# Altium schematic symbol library Reference_Voltage.SchLib: 343 symbols (part 1 of 4)
Pins are listed as number, name and electrical type; pins without a type are passive.

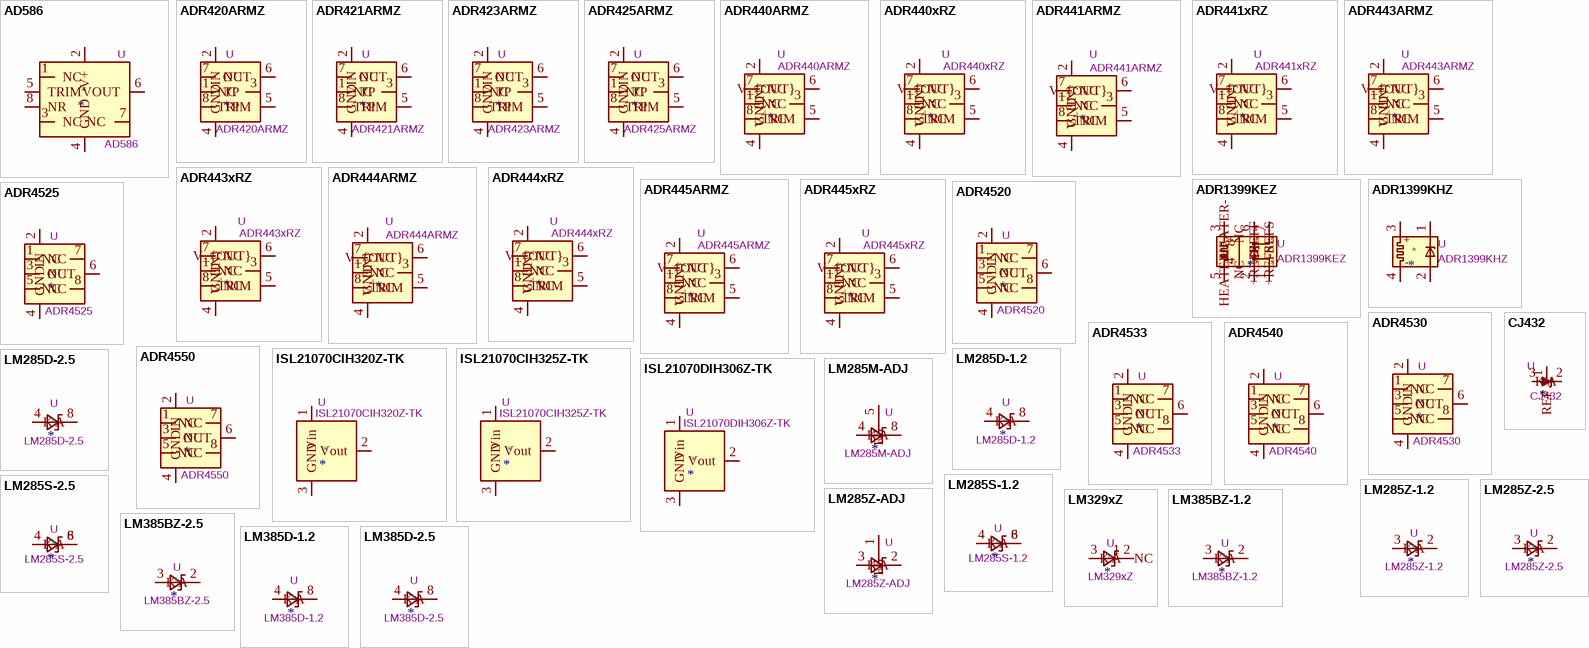
[diagram p0: symbols AD586 to LM385D-2.5]

## AD586
designator *  value AD586  Reference: U
High Precision, 5V Reference, DIP-8, SO-8; ki_keywords: voltage reference; ki_fp_filters: DIP*W7.62mm* SOIC*3.9x4.9mm*P1.27mm*; Datasheet: https://www.analog.com/media/en/technical-documentation/data-sheets/AD586.pdf; Description_: High Precision, 5V Reference, DIP-8, SO-8
pins: 1 NC, 2 V+, 3 NC, 4 GND, 5 TRIM, 6 VOUT, 7 NC, 8 NR

## ADR420ARMZ
designator *  value ADR420ARMZ  Reference: U
2.048V Voltage Reference, Ultraprecision, Low Noise, MSOP-8; ki_keywords: voltage reference Ultraprecision Low Noise; ki_fp_filters: MSOP*3x3mm*P0.65mm*; Footprint: Package_SO:MSOP-8_3x3mm_P0.65mm; Datasheet: https://www.analog.com/media/en/technical-documentation/data-sheets/adr420_421_423_425.pdf; Description_: 2.048V Voltage Reference, Ultraprecision, Low Noise, MSOP-8
pins: 1 TP, 2 VIN, 3 NC, 4 GND, 5 TRIM, 6 OUT, 7 NC, 8 TP

## ADR421ARMZ
designator *  value ADR421ARMZ  Reference: U
2.50V Voltage Reference, Ultraprecision, Low Noise, MSOP-8; ki_keywords: 2.5V voltage reference; ki_fp_filters: MSOP*3x3mm*P0.65mm*; Footprint: Package_SO:MSOP-8_3x3mm_P0.65mm; Datasheet: https://www.analog.com/media/en/technical-documentation/data-sheets/adr420_421_423_425.pdf; Description_: 2.50V Voltage Reference, Ultraprecision, Low Noise, MSOP-8
pins: 1 TP, 2 VIN, 3 NC, 4 GND, 5 TRIM, 6 OUT, 7 NC, 8 TP

## ADR423ARMZ
designator *  value ADR423ARMZ  Reference: U
3.00V Voltage Reference, Ultraprecision, Low Noise, MSOP-8; ki_keywords: 3V voltage reference; ki_fp_filters: MSOP*3x3mm*P0.65mm*; Footprint: Package_SO:MSOP-8_3x3mm_P0.65mm; Datasheet: https://www.analog.com/media/en/technical-documentation/data-sheets/adr420_421_423_425.pdf; Description_: 3.00V Voltage Reference, Ultraprecision, Low Noise, MSOP-8
pins: 1 TP, 2 VIN, 3 NC, 4 GND, 5 TRIM, 6 OUT, 7 NC, 8 TP

## ADR425ARMZ
designator *  value ADR425ARMZ  Reference: U
5.00V Voltage Reference, Ultraprecision, Low Noise, MSOP-8; ki_keywords: 5V voltage reference; ki_fp_filters: MSOP*3x3mm*P0.65mm*; Footprint: Package_SO:MSOP-8_3x3mm_P0.65mm; Datasheet: https://www.analog.com/media/en/technical-documentation/data-sheets/adr420_421_423_425.pdf; Description_: 5.00V Voltage Reference, Ultraprecision, Low Noise, MSOP-8
pins: 1 TP, 2 VIN, 3 NC, 4 GND, 5 TRIM, 6 OUT, 7 NC, 8 TP

## ADR440ARMZ
designator *  value ADR440ARMZ  Reference: U
2.048V Voltage Reference, Ultraprecision, Low Noise, MSOP-8; ki_keywords: voltage reference Ultraprecision Low Noise; ki_fp_filters: MSOP*3x3mm*P0.65mm*; Footprint: Package_SO:MSOP-8_3x3mm_P0.65mm; Datasheet: https://www.analog.com/media/en/technical-documentation/data-sheets/adr440_441_443_444_445.pdf; Description_: 2.048V Voltage Reference, Ultraprecision, Low Noise, MSOP-8
pins: 1 NC, 2 V_{IN}, 3 NC, 4 GND, 5 TRIM, 6 V_{OUT}, 7 NC, 8 NC

## ADR440xRZ
designator *  value ADR440xRZ  Reference: U
2.048V Voltage Reference, Ultraprecision, Low Noise, SOIC-8; ki_keywords: voltage reference Ultraprecision Low Noise; ki_fp_filters: SOIC*3.9x4.9mm*P1.27mm*; Footprint: Package_SO:SOIC-8_3.9x4.9mm_P1.27mm; Datasheet: https://www.analog.com/media/en/technical-documentation/data-sheets/adr440_441_443_444_445.pdf; Description_: 2.048V Voltage Reference, Ultraprecision, Low Noise, SOIC-8
pins: 1 NC, 2 V_{IN}, 3 NC, 4 GND, 5 TRIM, 6 V_{OUT}, 7 NC, 8 NC

## ADR441ARMZ
designator *  value ADR441ARMZ  Reference: U
2.5V Voltage Reference, Ultraprecision, Low Noise, MSOP-8; ki_keywords: voltage reference Ultraprecision Low Noise; ki_fp_filters: MSOP*3x3mm*P0.65mm*; Footprint: Package_SO:MSOP-8_3x3mm_P0.65mm; Datasheet: https://www.analog.com/media/en/technical-documentation/data-sheets/adr440_441_443_444_445.pdf; Description_: 2.5V Voltage Reference, Ultraprecision, Low Noise, MSOP-8
pins: 1 NC, 2 V_{IN}, 3 NC, 4 GND, 5 TRIM, 6 V_{OUT}, 7 NC, 8 NC

## ADR441xRZ
designator *  value ADR441xRZ  Reference: U
2.5V Voltage Reference, Ultraprecision, Low Noise, SOIC-8; ki_keywords: voltage reference Ultraprecision Low Noise; ki_fp_filters: SOIC*3.9x4.9mm*P1.27mm*; Footprint: Package_SO:SOIC-8_3.9x4.9mm_P1.27mm; Datasheet: https://www.analog.com/media/en/technical-documentation/data-sheets/adr440_441_443_444_445.pdf; Description_: 2.5V Voltage Reference, Ultraprecision, Low Noise, SOIC-8
pins: 1 NC, 2 V_{IN}, 3 NC, 4 GND, 5 TRIM, 6 V_{OUT}, 7 NC, 8 NC

## ADR443ARMZ
designator *  value ADR443ARMZ  Reference: U
3V Voltage Reference, Ultraprecision, Low Noise, MSOP-8; ki_keywords: voltage reference Ultraprecision Low Noise; ki_fp_filters: MSOP*3x3mm*P0.65mm*; Footprint: Package_SO:MSOP-8_3x3mm_P0.65mm; Datasheet: https://www.analog.com/media/en/technical-documentation/data-sheets/adr440_441_443_444_445.pdf; Description_: 3V Voltage Reference, Ultraprecision, Low Noise, MSOP-8
pins: 1 NC, 2 V_{IN}, 3 NC, 4 GND, 5 TRIM, 6 V_{OUT}, 7 NC, 8 NC

## ADR443xRZ
designator *  value ADR443xRZ  Reference: U
3V Voltage Reference, Ultraprecision, Low Noise, SOIC-8; ki_keywords: voltage reference Ultraprecision Low Noise; ki_fp_filters: SOIC*3.9x4.9mm*P1.27mm*; Footprint: Package_SO:SOIC-8_3.9x4.9mm_P1.27mm; Datasheet: https://www.analog.com/media/en/technical-documentation/data-sheets/adr440_441_443_444_445.pdf; Description_: 3V Voltage Reference, Ultraprecision, Low Noise, SOIC-8
pins: 1 NC, 2 V_{IN}, 3 NC, 4 GND, 5 TRIM, 6 V_{OUT}, 7 NC, 8 NC

## ADR444ARMZ
designator *  value ADR444ARMZ  Reference: U
4.096V Voltage Reference, Ultraprecision, Low Noise, MSOP-8; ki_keywords: voltage reference Ultraprecision Low Noise; ki_fp_filters: MSOP*3x3mm*P0.65mm*; Footprint: Package_SO:MSOP-8_3x3mm_P0.65mm; Datasheet: https://www.analog.com/media/en/technical-documentation/data-sheets/adr440_441_443_444_445.pdf; Description_: 4.096V Voltage Reference, Ultraprecision, Low Noise, MSOP-8
pins: 1 NC, 2 V_{IN}, 3 NC, 4 GND, 5 TRIM, 6 V_{OUT}, 7 NC, 8 NC

## ADR444xRZ
designator *  value ADR444xRZ  Reference: U
4.096V Voltage Reference, Ultraprecision, Low Noise, SOIC-8; ki_keywords: voltage reference Ultraprecision Low Noise; ki_fp_filters: SOIC*3.9x4.9mm*P1.27mm*; Footprint: Package_SO:SOIC-8_3.9x4.9mm_P1.27mm; Datasheet: https://www.analog.com/media/en/technical-documentation/data-sheets/adr440_441_443_444_445.pdf; Description_: 4.096V Voltage Reference, Ultraprecision, Low Noise, SOIC-8
pins: 1 NC, 2 V_{IN}, 3 NC, 4 GND, 5 TRIM, 6 V_{OUT}, 7 NC, 8 NC

## ADR445ARMZ
designator *  value ADR445ARMZ  Reference: U
5V Voltage Reference, Ultraprecision, Low Noise, MSOP-8; ki_keywords: voltage reference Ultraprecision Low Noise; ki_fp_filters: MSOP*3x3mm*P0.65mm*; Footprint: Package_SO:MSOP-8_3x3mm_P0.65mm; Datasheet: https://www.analog.com/media/en/technical-documentation/data-sheets/adr440_441_443_444_445.pdf; Description_: 5V Voltage Reference, Ultraprecision, Low Noise, MSOP-8
pins: 1 NC, 2 V_{IN}, 3 NC, 4 GND, 5 TRIM, 6 V_{OUT}, 7 NC, 8 NC

## ADR445xRZ
designator *  value ADR445xRZ  Reference: U
5V Voltage Reference, Ultraprecision, Low Noise, SOIC-8; ki_keywords: voltage reference Ultraprecision Low Noise; ki_fp_filters: SOIC*3.9x4.9mm*P1.27mm*; Footprint: Package_SO:SOIC-8_3.9x4.9mm_P1.27mm; Datasheet: https://www.analog.com/media/en/technical-documentation/data-sheets/adr440_441_443_444_445.pdf; Description_: 5V Voltage Reference, Ultraprecision, Low Noise, SOIC-8
pins: 1 NC, 2 V_{IN}, 3 NC, 4 GND, 5 TRIM, 6 V_{OUT}, 7 NC, 8 NC

## ADR1399KEZ
designator *  value ADR1399KEZ  Reference: U
Oven-Compensated, Buried Zener, 7.05 V Voltage Reference, LCC-8; ki_keywords: Zener diode device voltage reference; ki_fp_filters: Analog*LCC?8*5x5mm*P1.27mm*; Footprint: Package_LCC:Analog_LCC-8_5x5mm_P1.27mm; Datasheet: https://www.analog.com/media/en/technical-documentation/data-sheets/adr1399.pdf; Description_: Oven-Compensated, Buried Zener, 7.05 V Voltage Reference, LCC-8
pins: 1 -REFS, 2 -REFF, 3 HEATER+, 4 NC, 5 HEATER-, 6 +REFF, 7 +REFS, 8 NC
text: +; F; S; -

## ADR1399KHZ
designator *  value ADR1399KHZ  Reference: U
Oven-Compensated, Buried Zener, 7.05 V Voltage Reference, TO-46-4; ki_keywords: Zener diode device voltage reference; ki_fp_filters: Analog*TO?46*; Footprint: Package_TO_SOT_THT:Analog_TO-46-4_ThermalShield; Datasheet: https://www.analog.com/media/en/technical-documentation/data-sheets/adr1399.pdf; Description_: Oven-Compensated, Buried Zener, 7.05 V Voltage Reference, TO-46-4
pins: 1, 2, 3, 4
text: +; -

## ADR4520
designator *  value ADR4520  Reference: U
2.048V, Ultralow Noise, High Accuracy Voltage Reference, SOIC-8; ki_keywords: vref; ki_fp_filters: SOIC*3.9x4.9mm*P1.27mm*; Footprint: Package_SO:SOIC-8_3.9x4.9mm_P1.27mm; Datasheet: https://www.analog.com/media/en/technical-documentation/data-sheets/ADR4520_4525_4530_4533_4540_4550.pdf; Description_: 2.048V, Ultralow Noise, High Accuracy Voltage Reference, SOIC-8
pins: 1 NC, 2 IN, 3 NC, 4 GND, 5 NC, 6 OUT, 7 NC, 8 NC

## ADR4525
designator *  value ADR4525  Reference: U
2.5V, Ultralow Noise, High Accuracy Voltage Reference, SOIC-8; ki_keywords: vref; ki_fp_filters: SOIC*3.9x4.9mm*P1.27mm*; Footprint: Package_SO:SOIC-8_3.9x4.9mm_P1.27mm; Datasheet: https://www.analog.com/media/en/technical-documentation/data-sheets/ADR4520_4525_4530_4533_4540_4550.pdf; Description_: 2.5V, Ultralow Noise, High Accuracy Voltage Reference, SOIC-8
pins: 1 NC, 2 IN, 3 NC, 4 GND, 5 NC, 6 OUT, 7 NC, 8 NC

## ADR4530
designator *  value ADR4530  Reference: U
3.0V,  Ultralow Noise, High Accuracy Voltage Reference, SOIC-8; ki_keywords: vref; ki_fp_filters: SOIC*3.9x4.9mm*P1.27mm*; Footprint: Package_SO:SOIC-8_3.9x4.9mm_P1.27mm; Datasheet: https://www.analog.com/media/en/technical-documentation/data-sheets/ADR4520_4525_4530_4533_4540_4550.pdf; Description_: 3.0V,  Ultralow Noise, High Accuracy Voltage Reference, SOIC-8
pins: 1 NC, 2 IN, 3 NC, 4 GND, 5 NC, 6 OUT, 7 NC, 8 NC

## ADR4533
designator *  value ADR4533  Reference: U
3.3V,  Ultralow Noise, High Accuracy Voltage Reference, SOIC-8; ki_keywords: vref; ki_fp_filters: SOIC*3.9x4.9mm*P1.27mm*; Footprint: Package_SO:SOIC-8_3.9x4.9mm_P1.27mm; Datasheet: https://www.analog.com/media/en/technical-documentation/data-sheets/ADR4520_4525_4530_4533_4540_4550.pdf; Description_: 3.3V,  Ultralow Noise, High Accuracy Voltage Reference, SOIC-8
pins: 1 NC, 2 IN, 3 NC, 4 GND, 5 NC, 6 OUT, 7 NC, 8 NC

## ADR4540
designator *  value ADR4540  Reference: U
4.096V,  Ultralow Noise, High Accuracy Voltage Reference, SOIC-8; ki_keywords: vref; ki_fp_filters: SOIC*3.9x4.9mm*P1.27mm*; Footprint: Package_SO:SOIC-8_3.9x4.9mm_P1.27mm; Datasheet: https://www.analog.com/media/en/technical-documentation/data-sheets/ADR4520_4525_4530_4533_4540_4550.pdf; Description_: 4.096V,  Ultralow Noise, High Accuracy Voltage Reference, SOIC-8
pins: 1 NC, 2 IN, 3 NC, 4 GND, 5 NC, 6 OUT, 7 NC, 8 NC

## ADR4550
designator *  value ADR4550  Reference: U
5.0V,  Ultralow Noise, High Accuracy Voltage Reference, SOIC-8; ki_keywords: vref; ki_fp_filters: SOIC*3.9x4.9mm*P1.27mm*; Footprint: Package_SO:SOIC-8_3.9x4.9mm_P1.27mm; Datasheet: https://www.analog.com/media/en/technical-documentation/data-sheets/ADR4520_4525_4530_4533_4540_4550.pdf; Description_: 5.0V,  Ultralow Noise, High Accuracy Voltage Reference, SOIC-8
pins: 1 NC, 2 IN, 3 NC, 4 GND, 5 NC, 6 OUT, 7 NC, 8 NC

## CJ432
designator *  value CJ432  Reference: U
Shunt Regulator, SOT-23; ki_keywords: diode device shunt regulator; ki_fp_filters: SOT?23*; Footprint: Package_TO_SOT_SMD:SOT-23; Datasheet: http://www.cj-elec.com/txUpfile/20134181474991806.pdf; Description_: Shunt Regulator, SOT-23
pins: 1 REF, 2 K, 3 A

## ISL21070CIH320Z-TK
designator *  value ISL21070CIH320Z-TK  Reference: U
2.0V 25μA Micropower Voltage Reference, SOT-23; ki_keywords: Micropower Voltage Reference 2.0V; ki_fp_filters: SOT?23*; Footprint: Package_TO_SOT_SMD:SOT-23; Datasheet: http://www.intersil.com/content/dam/Intersil/documents/fn75/fn7599.pdf; Description_: 2.0V 25μA Micropower Voltage Reference, SOT-23
pins: 1 Vin, 2 Vout, 3 GND

## ISL21070CIH325Z-TK
designator *  value ISL21070CIH325Z-TK  Reference: U
2.5V 25μA Micropower Voltage Reference, SOT-23; ki_keywords: Micropower Voltage Reference 2.5V; ki_fp_filters: SOT?23*; Footprint: Package_TO_SOT_SMD:SOT-23; Datasheet: http://www.intersil.com/content/dam/Intersil/documents/fn75/fn7599.pdf; Description_: 2.5V 25μA Micropower Voltage Reference, SOT-23
pins: 1 Vin, 2 Vout, 3 GND

## ISL21070DIH306Z-TK
designator *  value ISL21070DIH306Z-TK  Reference: U
0.6V 25μA Micropower Voltage Reference, SOT-23; ki_keywords: Micropower Voltage Reference 0.6V; ki_fp_filters: SOT?23*; Footprint: Package_TO_SOT_SMD:SOT-23; Datasheet: http://www.intersil.com/content/dam/Intersil/documents/fn75/fn7599.pdf; Description_: 0.6V 25μA Micropower Voltage Reference, SOT-23
pins: 1 Vin, 2 Vout, 3 GND

## LM285D-1.2
designator *  value LM285D-1.2  Reference: U
1.235V Micropower Voltage Reference Diodes, SO-8; ki_keywords: diode device voltage reference; ki_fp_filters: SOIC?8*3.9x4.9m*P1.27mm*; Footprint: Package_SO:SOIC-8_3.9x4.9mm_P1.27mm; Datasheet: http://www.onsemi.com/pub_link/Collateral/LM285-D.PDF; Description_: 1.235V Micropower Voltage Reference Diodes, SO-8
pins: 4 A, 8 K

## LM285D-2.5
designator *  value LM285D-2.5  Reference: U
2.500V Micropower Voltage Reference Diodes, SO-8; ki_keywords: diode device voltage reference; ki_fp_filters: SOIC?8*3.9x4.9m*P1.27mm*; Footprint: Package_SO:SOIC-8_3.9x4.9mm_P1.27mm; Datasheet: http://www.onsemi.com/pub_link/Collateral/LM285-D.PDF; Description_: 2.500V Micropower Voltage Reference Diodes, SO-8
pins: 4 A, 8 K

## LM285M-ADJ
designator *  value LM285M-ADJ  Reference: U
Adjustable Micropower Voltage Reference Diodes, SO-8; ki_keywords: diode device voltage reference; ki_fp_filters: SOIC?8*3.9x4.9m*P1.27mm*; Footprint: Package_SO:SOIC-8_3.9x4.9mm_P1.27mm; Datasheet: http://www.ti.com/lit/ds/symlink/lm185-adj.pdf; Description_: Adjustable Micropower Voltage Reference Diodes, SO-8
pins: 4 A, 5 FB, 8 K

## LM285S-1.2
designator *  value LM285S-1.2  Reference: U
1.235V Micropower Voltage Reference Diodes, SO-8; ki_keywords: diode device voltage reference; ki_fp_filters: SOIC?8*3.9x4.9m*P1.27mm*; Footprint: Package_SO:SOIC-8_3.9x4.9mm_P1.27mm; Datasheet: https://www.analog.com/media/en/technical-documentation/data-sheets/185fc.pdf; Description_: 1.235V Micropower Voltage Reference Diodes, SO-8
pins: 4 A, 6 K, 8 K

## LM285S-2.5
designator *  value LM285S-2.5  Reference: U
2.500V Micropower Voltage Reference Diodes, SO-8; ki_keywords: diode device voltage reference; ki_fp_filters: SOIC?8*3.9x4.9m*P1.27mm*; Footprint: Package_SO:SOIC-8_3.9x4.9mm_P1.27mm; Datasheet: https://www.analog.com/media/en/technical-documentation/data-sheets/185fc.pdf; Description_: 2.500V Micropower Voltage Reference Diodes, SO-8
pins: 4 A, 6 K, 8 K

## LM285Z-1.2
designator *  value LM285Z-1.2  Reference: U
1.235V Micropower Voltage Reference Diodes, TO-92; ki_keywords: diode device voltage reference; ki_fp_filters: TO?92*Inline*; Footprint: Package_TO_SOT_THT:TO-92_Inline; Datasheet: http://www.onsemi.com/pub_link/Collateral/LM285-D.PDF; Description_: 1.235V Micropower Voltage Reference Diodes, TO-92
pins: 2 K, 3 A

## LM285Z-2.5
designator *  value LM285Z-2.5  Reference: U
2.5V Micropower Voltage Reference Diodes, TO-92; ki_keywords: diode device voltage reference; ki_fp_filters: TO?92*Inline*; Footprint: Package_TO_SOT_THT:TO-92_Inline; Datasheet: http://www.onsemi.com/pub_link/Collateral/LM285-D.PDF; Description_: 2.5V Micropower Voltage Reference Diodes, TO-92
pins: 2 K, 3 A

## LM285Z-ADJ
designator *  value LM285Z-ADJ  Reference: U
Adjustable Micropower Voltage Reference Diodes, TO-92; ki_keywords: diode device voltage reference; ki_fp_filters: TO?92*; Footprint: Package_TO_SOT_THT:TO-92_Inline; Datasheet: http://www.ti.com/lit/ds/symlink/lm185-adj.pdf; Description_: Adjustable Micropower Voltage Reference Diodes, TO-92
pins: 1 FB, 2 K, 3 A

## LM329xZ
designator *  value LM329xZ  Reference: U
6.9V Precision Voltage Reference, TO-92; ki_keywords: diode device voltage reference shunt; ki_fp_filters: TO?92*; Footprint: Package_TO_SOT_THT:TO-92_Inline; Datasheet: https://www.analog.com/media/en/technical-documentation/data-sheets/129329fd.pdf; Description_: 6.9V Precision Voltage Reference, TO-92
pins: 1 NC, 2 K, 3 A

## LM385BZ-1.2
designator *  value LM385BZ-1.2  Reference: U
1.235V Micropower Voltage Reference Diodes, TO-92; ki_keywords: diode device voltage reference; ki_fp_filters: TO?92*Inline*; Footprint: Package_TO_SOT_THT:TO-92_Inline; Datasheet: http://www.onsemi.com/pub_link/Collateral/LM285-D.PDF; Description_: 1.235V Micropower Voltage Reference Diodes, TO-92
pins: 2 K, 3 A

## LM385BZ-2.5
designator *  value LM385BZ-2.5  Reference: U
2.5V Micropower Voltage Reference Diodes, TO-92; ki_keywords: diode device voltage reference; ki_fp_filters: TO?92*Inline*; Footprint: Package_TO_SOT_THT:TO-92_Inline; Datasheet: http://www.onsemi.com/pub_link/Collateral/LM285-D.PDF; Description_: 2.5V Micropower Voltage Reference Diodes, TO-92
pins: 2 K, 3 A

## LM385D-1.2
designator *  value LM385D-1.2  Reference: U
1.235V Micropower Voltage Reference Diodes, SO-8; ki_keywords: diode device voltage reference; ki_fp_filters: SOIC?8*3.9x4.9m*P1.27mm*; Footprint: Package_SO:SOIC-8_3.9x4.9mm_P1.27mm; Datasheet: http://www.onsemi.com/pub_link/Collateral/LM285-D.PDF; Description_: 1.235V Micropower Voltage Reference Diodes, SO-8
pins: 4 A, 8 K

## LM385D-2.5
designator *  value LM385D-2.5  Reference: U
2.500V Micropower Voltage Reference Diodes, SO-8; ki_keywords: diode device voltage reference; ki_fp_filters: SOIC?8*3.9x4.9m*P1.27mm*; Footprint: Package_SO:SOIC-8_3.9x4.9mm_P1.27mm; Datasheet: http://www.onsemi.com/pub_link/Collateral/LM285-D.PDF; Description_: 2.500V Micropower Voltage Reference Diodes, SO-8
pins: 4 A, 8 K

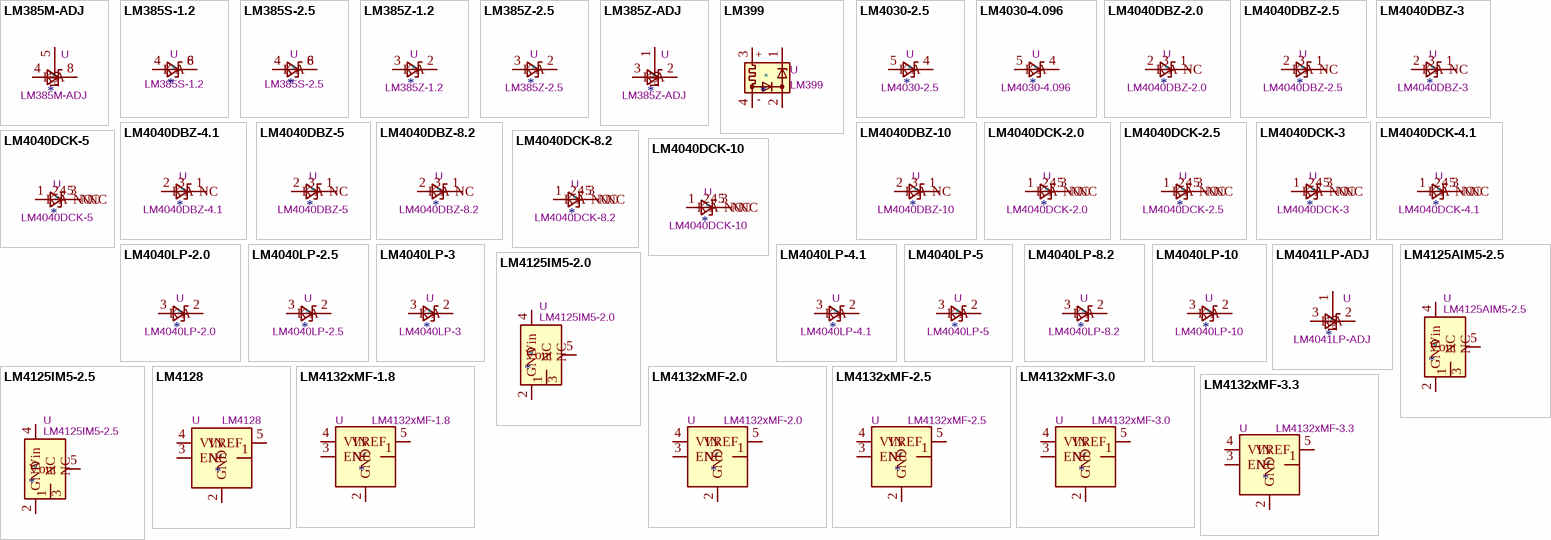
[diagram p1: symbols LM385M-ADJ to LM4132xMF-3.3]

## LM385M-ADJ
designator *  value LM385M-ADJ  Reference: U
Adjustable Micropower Voltage Reference Diodes, SO-8; ki_keywords: diode device voltage reference; ki_fp_filters: SOIC?8*3.9x4.9m*P1.27mm*; Footprint: Package_SO:SOIC-8_3.9x4.9mm_P1.27mm; Datasheet: http://www.ti.com/lit/ds/symlink/lm185-adj.pdf; Description_: Adjustable Micropower Voltage Reference Diodes, SO-8
pins: 4 A, 5 FB, 8 K

## LM385S-1.2
designator *  value LM385S-1.2  Reference: U
1.235V Micropower Voltage Reference Diodes, SO-8; ki_keywords: diode device voltage reference; ki_fp_filters: SOIC?8*3.9x4.9m*P1.27mm*; Footprint: Package_SO:SOIC-8_3.9x4.9mm_P1.27mm; Datasheet: https://www.analog.com/media/en/technical-documentation/data-sheets/185fc.pdf; Description_: 1.235V Micropower Voltage Reference Diodes, SO-8
pins: 4 A, 6 K, 8 K

## LM385S-2.5
designator *  value LM385S-2.5  Reference: U
2.500V Micropower Voltage Reference Diodes, SO-8; ki_keywords: diode device voltage reference; ki_fp_filters: SOIC?8*3.9x4.9m*P1.27mm*; Footprint: Package_SO:SOIC-8_3.9x4.9mm_P1.27mm; Datasheet: https://www.analog.com/media/en/technical-documentation/data-sheets/185fc.pdf; Description_: 2.500V Micropower Voltage Reference Diodes, SO-8
pins: 4 A, 6 K, 8 K

## LM385Z-1.2
designator *  value LM385Z-1.2  Reference: U
1.235V Micropower Voltage Reference Diodes, TO-92; ki_keywords: diode device voltage reference; ki_fp_filters: TO?92*Inline*; Footprint: Package_TO_SOT_THT:TO-92_Inline; Datasheet: http://www.onsemi.com/pub_link/Collateral/LM285-D.PDF; Description_: 1.235V Micropower Voltage Reference Diodes, TO-92
pins: 2 K, 3 A

## LM385Z-2.5
designator *  value LM385Z-2.5  Reference: U
2.5V Micropower Voltage Reference Diodes, TO-92; ki_keywords: diode device voltage reference; ki_fp_filters: TO?92*Inline*; Footprint: Package_TO_SOT_THT:TO-92_Inline; Datasheet: http://www.onsemi.com/pub_link/Collateral/LM285-D.PDF; Description_: 2.5V Micropower Voltage Reference Diodes, TO-92
pins: 2 K, 3 A

## LM385Z-ADJ
designator *  value LM385Z-ADJ  Reference: U
Adjustable Micropower Voltage Reference Diodes, TO-92; ki_keywords: diode device voltage reference; ki_fp_filters: TO?92*; Footprint: Package_TO_SOT_THT:TO-92_Inline; Datasheet: http://www.ti.com/lit/ds/symlink/lm185-adj.pdf; Description_: Adjustable Micropower Voltage Reference Diodes, TO-92
pins: 1 FB, 2 K, 3 A

## LM399
designator *  value LM399  Reference: U
Precision Reference, 6.95V, Buried Zener Diode with Thermal Shielding Can, TO-46-4; ki_keywords: Zener diode device voltage reference; ki_fp_filters: Analog*TO?46*; Footprint: Package_TO_SOT_THT:Analog_TO-46-4_ThermalShield; Datasheet: https://www.analog.com/media/en/technical-documentation/data-sheets/199399fc.pdf; Description_: Precision Reference, 6.95V, Buried Zener Diode with Thermal Shielding Can, TO-46-4
pins: 1, 2, 3, 4
text: +; -

## LM4030-2.5
designator *  value LM4030-2.5  Reference: U
2.500V Ultra-High Precision Shunt Voltage Reference, SOT-23-5; ki_keywords: diode device voltage reference shunt; ki_fp_filters: SOT?23?5*; Footprint: Package_TO_SOT_SMD:SOT-23-5; Datasheet: http://www.ti.com/lit/ds/symlink/lm4030.pdf; Description_: 2.500V Ultra-High Precision Shunt Voltage Reference, SOT-23-5
pins: 4 K, 5 A

## LM4030-4.096
designator *  value LM4030-4.096  Reference: U
4.096V Ultra-High Precision Shunt Voltage Reference, SOT-23-5; ki_keywords: diode device voltage reference shunt; ki_fp_filters: SOT?23?5*; Footprint: Package_TO_SOT_SMD:SOT-23-5; Datasheet: http://www.ti.com/lit/ds/symlink/lm4030.pdf; Description_: 4.096V Ultra-High Precision Shunt Voltage Reference, SOT-23-5
pins: 4 K, 5 A

## LM4040DBZ-2.0
designator *  value LM4040DBZ-2.0  Reference: U
2.048V Precision Micropower Shunt Voltage Reference, SOT-23; ki_keywords: diode device voltage reference shunt; ki_fp_filters: SOT?23*; Footprint: Package_TO_SOT_SMD:SOT-23; Datasheet: http://www.ti.com/lit/ds/symlink/lm4040-n.pdf; Description_: 2.048V Precision Micropower Shunt Voltage Reference, SOT-23
pins: 1 K, 2 A, 3 NC

## LM4040DBZ-2.5
designator *  value LM4040DBZ-2.5  Reference: U
2.500V Precision Micropower Shunt Voltage Reference, SOT-23; ki_keywords: diode device voltage reference shunt; ki_fp_filters: SOT?23*; Footprint: Package_TO_SOT_SMD:SOT-23; Datasheet: http://www.ti.com/lit/ds/symlink/lm4040-n.pdf; Description_: 2.500V Precision Micropower Shunt Voltage Reference, SOT-23
pins: 1 K, 2 A, 3 NC

## LM4040DBZ-3
designator *  value LM4040DBZ-3  Reference: U
3.000V Precision Micropower Shunt Voltage Reference, SOT-23; ki_keywords: diode device voltage reference shunt; ki_fp_filters: SOT?23*; Footprint: Package_TO_SOT_SMD:SOT-23; Datasheet: http://www.ti.com/lit/ds/symlink/lm4040-n.pdf; Description_: 3.000V Precision Micropower Shunt Voltage Reference, SOT-23
pins: 1 K, 2 A, 3 NC

## LM4040DBZ-4.1
designator *  value LM4040DBZ-4.1  Reference: U
4.096V Precision Micropower Shunt Voltage Reference, SOT-23; ki_keywords: diode device voltage reference shunt; ki_fp_filters: SOT?23*; Footprint: Package_TO_SOT_SMD:SOT-23; Datasheet: http://www.ti.com/lit/ds/symlink/lm4040-n.pdf; Description_: 4.096V Precision Micropower Shunt Voltage Reference, SOT-23
pins: 1 K, 2 A, 3 NC

## LM4040DBZ-5
designator *  value LM4040DBZ-5  Reference: U
5.000V Precision Micropower Shunt Voltage Reference, SOT-23; ki_keywords: diode device voltage reference shunt; ki_fp_filters: SOT?23*; Footprint: Package_TO_SOT_SMD:SOT-23; Datasheet: http://www.ti.com/lit/ds/symlink/lm4040-n.pdf; Description_: 5.000V Precision Micropower Shunt Voltage Reference, SOT-23
pins: 1 K, 2 A, 3 NC

## LM4040DBZ-8.2
designator *  value LM4040DBZ-8.2  Reference: U
8.192V Precision Micropower Shunt Voltage Reference, SOT-23; ki_keywords: diode device voltage reference shunt; ki_fp_filters: SOT?23*; Footprint: Package_TO_SOT_SMD:SOT-23; Datasheet: http://www.ti.com/lit/ds/symlink/lm4040-n.pdf; Description_: 8.192V Precision Micropower Shunt Voltage Reference, SOT-23
pins: 1 K, 2 A, 3 NC

## LM4040DBZ-10
designator *  value LM4040DBZ-10  Reference: U
10.00V Precision Micropower Shunt Voltage Reference, SOT-23; ki_keywords: diode device voltage reference shunt; ki_fp_filters: SOT?23*; Footprint: Package_TO_SOT_SMD:SOT-23; Datasheet: http://www.ti.com/lit/ds/symlink/lm4040-n.pdf; Description_: 10.00V Precision Micropower Shunt Voltage Reference, SOT-23
pins: 1 K, 2 A, 3 NC

## LM4040DCK-2.0
designator *  value LM4040DCK-2.0  Reference: U
2.048V Precision Micropower Shunt Voltage Reference, SC-70; ki_keywords: diode device voltage reference shunt; ki_fp_filters: SOT?353*; Footprint: Package_TO_SOT_SMD:SOT-353_SC-70-5; Datasheet: http://www.ti.com/lit/ds/symlink/lm4040-n.pdf; Description_: 2.048V Precision Micropower Shunt Voltage Reference, SC-70
pins: 1 A, 2 NC, 3 K, 4 NC, 5 NC

## LM4040DCK-2.5
designator *  value LM4040DCK-2.5  Reference: U
2.500V Precision Micropower Shunt Voltage Reference, SC-70; ki_keywords: diode device voltage reference shunt; ki_fp_filters: SOT?353*; Footprint: Package_TO_SOT_SMD:SOT-353_SC-70-5; Datasheet: http://www.ti.com/lit/ds/symlink/lm4040-n.pdf; Description_: 2.500V Precision Micropower Shunt Voltage Reference, SC-70
pins: 1 A, 2 NC, 3 K, 4 NC, 5 NC

## LM4040DCK-3
designator *  value LM4040DCK-3  Reference: U
3.000V Precision Micropower Shunt Voltage Reference, SC-70; ki_keywords: diode device voltage reference shunt; ki_fp_filters: SOT?353*; Footprint: Package_TO_SOT_SMD:SOT-353_SC-70-5; Datasheet: http://www.ti.com/lit/ds/symlink/lm4040-n.pdf; Description_: 3.000V Precision Micropower Shunt Voltage Reference, SC-70
pins: 1 A, 2 NC, 3 K, 4 NC, 5 NC

## LM4040DCK-4.1
designator *  value LM4040DCK-4.1  Reference: U
4.096V Precision Micropower Shunt Voltage Reference, SC-70; ki_keywords: diode device voltage reference shunt; ki_fp_filters: SOT?353*; Footprint: Package_TO_SOT_SMD:SOT-353_SC-70-5; Datasheet: http://www.ti.com/lit/ds/symlink/lm4040-n.pdf; Description_: 4.096V Precision Micropower Shunt Voltage Reference, SC-70
pins: 1 A, 2 NC, 3 K, 4 NC, 5 NC

## LM4040DCK-5
designator *  value LM4040DCK-5  Reference: U
5.000V Precision Micropower Shunt Voltage Reference, SC-70; ki_keywords: diode device voltage reference shunt; ki_fp_filters: SOT?353*; Footprint: Package_TO_SOT_SMD:SOT-353_SC-70-5; Datasheet: http://www.ti.com/lit/ds/symlink/lm4040-n.pdf; Description_: 5.000V Precision Micropower Shunt Voltage Reference, SC-70
pins: 1 A, 2 NC, 3 K, 4 NC, 5 NC

## LM4040DCK-8.2
designator *  value LM4040DCK-8.2  Reference: U
8.192V Precision Micropower Shunt Voltage Reference, SC-70; ki_keywords: diode device voltage reference shunt; ki_fp_filters: SOT?353*; Footprint: Package_TO_SOT_SMD:SOT-353_SC-70-5; Datasheet: http://www.ti.com/lit/ds/symlink/lm4040-n.pdf; Description_: 8.192V Precision Micropower Shunt Voltage Reference, SC-70
pins: 1 A, 2 NC, 3 K, 4 NC, 5 NC

## LM4040DCK-10
designator *  value LM4040DCK-10  Reference: U
10.0V Precision Micropower Shunt Voltage Reference, SC-70; ki_keywords: diode device voltage reference shunt; ki_fp_filters: SOT?353*; Footprint: Package_TO_SOT_SMD:SOT-353_SC-70-5; Datasheet: http://www.ti.com/lit/ds/symlink/lm4040-n.pdf; Description_: 10.0V Precision Micropower Shunt Voltage Reference, SC-70
pins: 1 A, 2 NC, 3 K, 4 NC, 5 NC

## LM4040LP-2.0
designator *  value LM4040LP-2.0  Reference: U
2.048V Precision Micropower Shunt Voltage Reference, TO-92; ki_keywords: diode device voltage reference shunt; ki_fp_filters: TO?92*Inline*; Footprint: Package_TO_SOT_THT:TO-92_Inline; Datasheet: http://www.ti.com/lit/ds/symlink/lm4040-n.pdf; Description_: 2.048V Precision Micropower Shunt Voltage Reference, TO-92
pins: 2 K, 3 A

## LM4040LP-2.5
designator *  value LM4040LP-2.5  Reference: U
2.500V Precision Micropower Shunt Voltage Reference, TO-92; ki_keywords: diode device voltage reference shunt; ki_fp_filters: TO?92*Inline*; Footprint: Package_TO_SOT_THT:TO-92_Inline; Datasheet: http://www.ti.com/lit/ds/symlink/lm4040-n.pdf; Description_: 2.500V Precision Micropower Shunt Voltage Reference, TO-92
pins: 2 K, 3 A

## LM4040LP-3
designator *  value LM4040LP-3  Reference: U
3.000V Precision Micropower Shunt Voltage Reference, TO-92; ki_keywords: diode device voltage reference shunt; ki_fp_filters: TO?92*Inline*; Footprint: Package_TO_SOT_THT:TO-92_Inline; Datasheet: http://www.ti.com/lit/ds/symlink/lm4040-n.pdf; Description_: 3.000V Precision Micropower Shunt Voltage Reference, TO-92
pins: 2 K, 3 A

## LM4040LP-4.1
designator *  value LM4040LP-4.1  Reference: U
4.096V Precision Micropower Shunt Voltage Reference, TO-92; ki_keywords: diode device voltage reference shunt; ki_fp_filters: TO?92*Inline*; Footprint: Package_TO_SOT_THT:TO-92_Inline; Datasheet: http://www.ti.com/lit/ds/symlink/lm4040-n.pdf; Description_: 4.096V Precision Micropower Shunt Voltage Reference, TO-92
pins: 2 K, 3 A

## LM4040LP-5
designator *  value LM4040LP-5  Reference: U
5.000V Precision Micropower Shunt Voltage Reference, TO-92; ki_keywords: diode device voltage reference shunt; ki_fp_filters: TO?92*Inline*; Footprint: Package_TO_SOT_THT:TO-92_Inline; Datasheet: http://www.ti.com/lit/ds/symlink/lm4040-n.pdf; Description_: 5.000V Precision Micropower Shunt Voltage Reference, TO-92
pins: 2 K, 3 A

## LM4040LP-8.2
designator *  value LM4040LP-8.2  Reference: U
8.192V Precision Micropower Shunt Voltage Reference, TO-92; ki_keywords: diode device voltage reference shunt; ki_fp_filters: TO?92*Inline*; Footprint: Package_TO_SOT_THT:TO-92_Inline; Datasheet: http://www.ti.com/lit/ds/symlink/lm4040-n.pdf; Description_: 8.192V Precision Micropower Shunt Voltage Reference, TO-92
pins: 2 K, 3 A

## LM4040LP-10
designator *  value LM4040LP-10  Reference: U
10.00V Precision Micropower Shunt Voltage Reference, TO-92; ki_keywords: diode device voltage reference shunt; ki_fp_filters: TO?92*Inline*; Footprint: Package_TO_SOT_THT:TO-92_Inline; Datasheet: http://www.ti.com/lit/ds/symlink/lm4040-n.pdf; Description_: 10.00V Precision Micropower Shunt Voltage Reference, TO-92
pins: 2 K, 3 A

## LM4041LP-ADJ
designator *  value LM4041LP-ADJ  Reference: U
Adjustable Precision Micropower Shunt Voltage Reference, TO-92; ki_keywords: diode device voltage reference shunt; ki_fp_filters: TO?92*; Footprint: Package_TO_SOT_THT:TO-92_Inline; Datasheet: http://www.ti.com/lit/ds/symlink/lm4041-n.pdf; Description_: Adjustable Precision Micropower Shunt Voltage Reference, TO-92
pins: 1 FB, 2 K, 3 A

## LM4125AIM5-2.5
designator *  value LM4125AIM5-2.5  Reference: U
2.5V ±0.2% Precision Micropower Low Dropout Voltage Reference, SOT-23-5; ki_keywords: Precision Micropower Low Dropout Voltage Reference 2.5V; ki_fp_filters: SOT?23*; Footprint: Package_TO_SOT_SMD:SOT-23-5; Datasheet: http://www.ti.com/lit/ds/symlink/lm4125.pdf; Description_: 2.5V ±0.2% Precision Micropower Low Dropout Voltage Reference, SOT-23-5
pins: 1 NC, 2 GND, 3 NC, 4 Vin, 5 Vout

## LM4125IM5-2.0
designator *  value LM4125IM5-2.0  Reference: U
2V ±0.5% Precision Micropower Low Dropout Voltage Reference, SOT-23-5; ki_keywords: Precision Micropower Low Dropout Voltage Reference 2V; ki_fp_filters: SOT?23*; Footprint: Package_TO_SOT_SMD:SOT-23-5; Datasheet: http://www.ti.com/lit/ds/symlink/lm4125.pdf; Description_: 2V ±0.5% Precision Micropower Low Dropout Voltage Reference, SOT-23-5
pins: 1 NC, 2 GND, 3 NC, 4 Vin, 5 Vout

## LM4125IM5-2.5
designator *  value LM4125IM5-2.5  Reference: U
2.5V ±0.5% Precision Micropower Low Dropout Voltage Reference, SOT-23-5; ki_keywords: Precision Micropower Low Dropout Voltage Reference 2.5V; ki_fp_filters: SOT?23*; Footprint: Package_TO_SOT_SMD:SOT-23-5; Datasheet: http://www.ti.com/lit/ds/symlink/lm4125.pdf; Description_: 2.5V ±0.5% Precision Micropower Low Dropout Voltage Reference, SOT-23-5
pins: 1 NC, 2 GND, 3 NC, 4 Vin, 5 Vout

## LM4128
designator *  value LM4128  Reference: U
2.5V ±0.2% Precision Micropower Low Dropout Voltage Reference, SOT-23-5; ki_keywords: Precision Micropower Low Dropout Voltage Reference 2.5V; ki_fp_filters: SOT?23*; Footprint: Package_TO_SOT_SMD:SOT-23-5; Datasheet: http://www.ti.com/lit/ds/symlink/lm4128.pdf; Description_: 2.5V ±0.2% Precision Micropower Low Dropout Voltage Reference, SOT-23-5
pins: 1 NC, 2 GND, 3 EN, 4 VIN, 5 VREF

## LM4132xMF-1.8
designator *  value LM4132xMF-1.8  Reference: U
Precision Low Dropout Voltage Reference, 1.8V, ±0.05% to ±0.5%, SOT-23-5; ki_keywords: Precision Low Dropout Voltage Reference 1.8V; ki_fp_filters: SOT?23*; Footprint: Package_TO_SOT_SMD:SOT-23-5; Datasheet: http://www.ti.com/lit/ds/symlink/lm4132.pdf; Description_: Precision Low Dropout Voltage Reference, 1.8V, ±0.05% to ±0.5%, SOT-23-5
pins: 1 NC, 2 GND, 3 EN, 4 VIN, 5 VREF

## LM4132xMF-2.0
designator *  value LM4132xMF-2.0  Reference: U
Precision Low Dropout Voltage Reference, 2.048V, ±0.05% to ±0.5%, SOT-23-5; ki_keywords: Precision Low Dropout Voltage Reference 2.048V; ki_fp_filters: SOT?23*; Footprint: Package_TO_SOT_SMD:SOT-23-5; Datasheet: http://www.ti.com/lit/ds/symlink/lm4132.pdf; Description_: Precision Low Dropout Voltage Reference, 2.048V, ±0.05% to ±0.5%, SOT-23-5
pins: 1 NC, 2 GND, 3 EN, 4 VIN, 5 VREF

## LM4132xMF-2.5
designator *  value LM4132xMF-2.5  Reference: U
Precision Low Dropout Voltage Reference, 2.5V, ±0.05% to ±0.5%, SOT-23-5; ki_keywords: Precision Low Dropout Voltage Reference 2.5V; ki_fp_filters: SOT?23*; Footprint: Package_TO_SOT_SMD:SOT-23-5; Datasheet: http://www.ti.com/lit/ds/symlink/lm4132.pdf; Description_: Precision Low Dropout Voltage Reference, 2.5V, ±0.05% to ±0.5%, SOT-23-5
pins: 1 NC, 2 GND, 3 EN, 4 VIN, 5 VREF

## LM4132xMF-3.0
designator *  value LM4132xMF-3.0  Reference: U
Precision Low Dropout Voltage Reference, 3.0V, ±0.05% to ±0.5%, SOT-23-5; ki_keywords: Precision Low Dropout Voltage Reference 3.0V; ki_fp_filters: SOT?23*; Footprint: Package_TO_SOT_SMD:SOT-23-5; Datasheet: http://www.ti.com/lit/ds/symlink/lm4132.pdf; Description_: Precision Low Dropout Voltage Reference, 3.0V, ±0.05% to ±0.5%, SOT-23-5
pins: 1 NC, 2 GND, 3 EN, 4 VIN, 5 VREF

## LM4132xMF-3.3
designator *  value LM4132xMF-3.3  Reference: U
Precision Low Dropout Voltage Reference, 3.3V, ±0.05% to ±0.5%, SOT-23-5; ki_keywords: Precision Low Dropout Voltage Reference 3.3V; ki_fp_filters: SOT?23*; Footprint: Package_TO_SOT_SMD:SOT-23-5; Datasheet: http://www.ti.com/lit/ds/symlink/lm4132.pdf; Description_: Precision Low Dropout Voltage Reference, 3.3V, ±0.05% to ±0.5%, SOT-23-5
pins: 1 NC, 2 GND, 3 EN, 4 VIN, 5 VREF

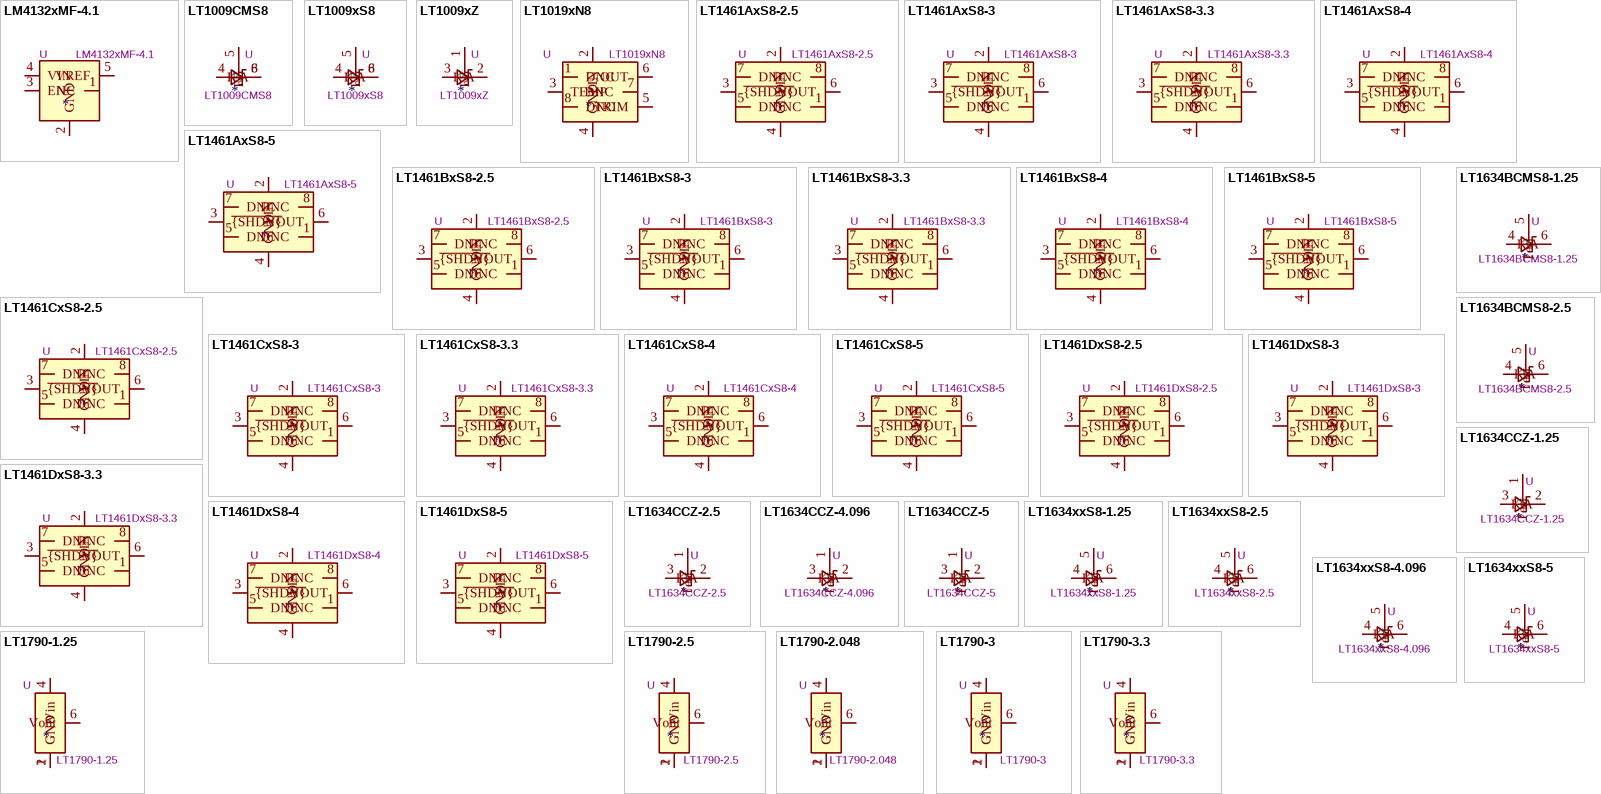
[diagram p2: symbols LM4132xMF-4.1 to LT1790-3.3]

## LM4132xMF-4.1
designator *  value LM4132xMF-4.1  Reference: U
Precision Low Dropout Voltage Reference, 4.096V, ±0.05% to ±0.5%, SOT-23-5; ki_keywords: Precision Low Dropout Voltage Reference 4.096V; ki_fp_filters: SOT?23*; Footprint: Package_TO_SOT_SMD:SOT-23-5; Datasheet: http://www.ti.com/lit/ds/symlink/lm4132.pdf; Description_: Precision Low Dropout Voltage Reference, 4.096V, ±0.05% to ±0.5%, SOT-23-5
pins: 1 NC, 2 GND, 3 EN, 4 VIN, 5 VREF

## LT1009CMS8
designator *  value LT1009CMS8  Reference: U
Adjustable Micropower Voltage Reference Diodes, TO-92; ki_keywords: diode device voltage reference; ki_fp_filters: *MSOP*; Footprint: Package_SO:MSOP-8_3x3mm_P0.65mm; Datasheet: https://www.analog.com/media/en/technical-documentation/data-sheets/lt1009.pdf; Description_: Adjustable Micropower Voltage Reference Diodes, TO-92
pins: 4 A, 5 FB, 6 K, 8 K

## LT1009xS8
designator *  value LT1009xS8  Reference: U
Adjustable Micropower Voltage Reference Diodes, TO-92; ki_keywords: diode device voltage reference; ki_fp_filters: *SOIC?8*; Footprint: Package_SO:SOIC-8_3.9x4.9mm_P1.27mm; Datasheet: https://www.analog.com/media/en/technical-documentation/data-sheets/lt1009.pdf; Description_: Adjustable Micropower Voltage Reference Diodes, TO-92
pins: 4 A, 5 FB, 6 K, 8 K

## LT1009xZ
designator *  value LT1009xZ  Reference: U
Adjustable Micropower Voltage Reference Diodes, TO-92; ki_keywords: diode device voltage reference LT1009CZ LT1009IZ; ki_fp_filters: TO?92*; Footprint: Package_TO_SOT_THT:TO-92L_Inline; Datasheet: https://www.analog.com/media/en/technical-documentation/data-sheets/lt1009.pdf; Description_: Adjustable Micropower Voltage Reference Diodes, TO-92
pins: 1 FB, 2 K, 3 A

## LT1019xN8
designator *  value LT1019xN8  Reference: U
Precision Reference, Ultra Low Drift, DIP-8; ki_keywords: voltage reference vref; ki_fp_filters: DIP*W7.62mm*; Footprint: Package_DIP:DIP-8_W7.62mm; Datasheet: https://www.analog.com/media/en/technical-documentation/data-sheets/1019fd.pdf; Description_: Precision Reference, Ultra Low Drift, DIP-8
pins: 1 DNC, 2 IN, 3 TEMP, 4 GND, 5 TRIM, 6 OUT, 7 DNC, 8 DNC

## LT1461AxS8-2.5
designator *  value LT1461AxS8-2.5  Reference: U
Voltage Reference, ±0.04%, 2.5V, 100mA, 3V-20V Vin, SOIC-8; ki_keywords: voltage reference precision; ki_fp_filters: SOIC*3.9x4.9mm*P1.27mm*; Footprint: Package_SO:SOIC-8_3.9x4.9mm_P1.27mm; Datasheet: https://www.analog.com/media/en/technical-documentation/data-sheets/LT1461.pdf; Description_: Voltage Reference, ±0.04%, 2.5V, 100mA, 3V-20V Vin, SOIC-8
pins: 1 DNC, 2 VIN, 3 ~{{SHDN}}, 4 GND, 5 DNC, 6 VOUT, 7 DNC, 8 DNC

## LT1461AxS8-3
designator *  value LT1461AxS8-3  Reference: U
Voltage Reference, ±0.04%, 3V, 100mA, 3.5V-20V Vin, SOIC-8; ki_keywords: voltage reference precision; ki_fp_filters: SOIC*3.9x4.9mm*P1.27mm*; Footprint: Package_SO:SOIC-8_3.9x4.9mm_P1.27mm; Datasheet: https://www.analog.com/media/en/technical-documentation/data-sheets/LT1461.pdf; Description_: Voltage Reference, ±0.04%, 3V, 100mA, 3.5V-20V Vin, SOIC-8
pins: 1 DNC, 2 VIN, 3 ~{{SHDN}}, 4 GND, 5 DNC, 6 VOUT, 7 DNC, 8 DNC

## LT1461AxS8-3.3
designator *  value LT1461AxS8-3.3  Reference: U
Voltage Reference, ±0.04%, 3.3V, 100mA, 3.8V-20V Vin, SOIC-8; ki_keywords: voltage reference precision; ki_fp_filters: SOIC*3.9x4.9mm*P1.27mm*; Footprint: Package_SO:SOIC-8_3.9x4.9mm_P1.27mm; Datasheet: https://www.analog.com/media/en/technical-documentation/data-sheets/LT1461.pdf; Description_: Voltage Reference, ±0.04%, 3.3V, 100mA, 3.8V-20V Vin, SOIC-8
pins: 1 DNC, 2 VIN, 3 ~{{SHDN}}, 4 GND, 5 DNC, 6 VOUT, 7 DNC, 8 DNC

## LT1461AxS8-4
designator *  value LT1461AxS8-4  Reference: U
Voltage Reference, ±0.04%, 4.096V, 100mA, 4.596V-20V Vin, SOIC-8; ki_keywords: voltage reference precision; ki_fp_filters: SOIC*3.9x4.9mm*P1.27mm*; Footprint: Package_SO:SOIC-8_3.9x4.9mm_P1.27mm; Datasheet: https://www.analog.com/media/en/technical-documentation/data-sheets/LT1461.pdf; Description_: Voltage Reference, ±0.04%, 4.096V, 100mA, 4.596V-20V Vin, SOIC-8
pins: 1 DNC, 2 VIN, 3 ~{{SHDN}}, 4 GND, 5 DNC, 6 VOUT, 7 DNC, 8 DNC

## LT1461AxS8-5
designator *  value LT1461AxS8-5  Reference: U
Voltage Reference, ±0.04%, 5V, 100mA, 5.5V-20V Vin, SOIC-8; ki_keywords: voltage reference precision; ki_fp_filters: SOIC*3.9x4.9mm*P1.27mm*; Footprint: Package_SO:SOIC-8_3.9x4.9mm_P1.27mm; Datasheet: https://www.analog.com/media/en/technical-documentation/data-sheets/LT1461.pdf; Description_: Voltage Reference, ±0.04%, 5V, 100mA, 5.5V-20V Vin, SOIC-8
pins: 1 DNC, 2 VIN, 3 ~{{SHDN}}, 4 GND, 5 DNC, 6 VOUT, 7 DNC, 8 DNC

## LT1461BxS8-2.5
designator *  value LT1461BxS8-2.5  Reference: U
Voltage Reference, ±0.06%, 2.5V, 100mA, 3V-20V Vin, SOIC-8; ki_keywords: voltage reference precision; ki_fp_filters: SOIC*3.9x4.9mm*P1.27mm*; Footprint: Package_SO:SOIC-8_3.9x4.9mm_P1.27mm; Datasheet: https://www.analog.com/media/en/technical-documentation/data-sheets/LT1461.pdf; Description_: Voltage Reference, ±0.06%, 2.5V, 100mA, 3V-20V Vin, SOIC-8
pins: 1 DNC, 2 VIN, 3 ~{{SHDN}}, 4 GND, 5 DNC, 6 VOUT, 7 DNC, 8 DNC

## LT1461BxS8-3
designator *  value LT1461BxS8-3  Reference: U
Voltage Reference, ±0.06%, 3V, 100mA, 3.5V-20V Vin, SOIC-8; ki_keywords: voltage reference precision; ki_fp_filters: SOIC*3.9x4.9mm*P1.27mm*; Footprint: Package_SO:SOIC-8_3.9x4.9mm_P1.27mm; Datasheet: https://www.analog.com/media/en/technical-documentation/data-sheets/LT1461.pdf; Description_: Voltage Reference, ±0.06%, 3V, 100mA, 3.5V-20V Vin, SOIC-8
pins: 1 DNC, 2 VIN, 3 ~{{SHDN}}, 4 GND, 5 DNC, 6 VOUT, 7 DNC, 8 DNC

## LT1461BxS8-3.3
designator *  value LT1461BxS8-3.3  Reference: U
Voltage Reference, ±0.06%, 3.3V, 100mA, 3.8V-20V Vin, SOIC-8; ki_keywords: voltage reference precision; ki_fp_filters: SOIC*3.9x4.9mm*P1.27mm*; Footprint: Package_SO:SOIC-8_3.9x4.9mm_P1.27mm; Datasheet: https://www.analog.com/media/en/technical-documentation/data-sheets/LT1461.pdf; Description_: Voltage Reference, ±0.06%, 3.3V, 100mA, 3.8V-20V Vin, SOIC-8
pins: 1 DNC, 2 VIN, 3 ~{{SHDN}}, 4 GND, 5 DNC, 6 VOUT, 7 DNC, 8 DNC

## LT1461BxS8-4
designator *  value LT1461BxS8-4  Reference: U
Voltage Reference, ±0.06%, 4.096V, 100mA, 4.596V-20V Vin, SOIC-8; ki_keywords: voltage reference precision; ki_fp_filters: SOIC*3.9x4.9mm*P1.27mm*; Footprint: Package_SO:SOIC-8_3.9x4.9mm_P1.27mm; Datasheet: https://www.analog.com/media/en/technical-documentation/data-sheets/LT1461.pdf; Description_: Voltage Reference, ±0.06%, 4.096V, 100mA, 4.596V-20V Vin, SOIC-8
pins: 1 DNC, 2 VIN, 3 ~{{SHDN}}, 4 GND, 5 DNC, 6 VOUT, 7 DNC, 8 DNC

## LT1461BxS8-5
designator *  value LT1461BxS8-5  Reference: U
Voltage Reference, ±0.06%, 5V, 100mA, 5.5V-20V Vin, SOIC-8; ki_keywords: voltage reference precision; ki_fp_filters: SOIC*3.9x4.9mm*P1.27mm*; Footprint: Package_SO:SOIC-8_3.9x4.9mm_P1.27mm; Datasheet: https://www.analog.com/media/en/technical-documentation/data-sheets/LT1461.pdf; Description_: Voltage Reference, ±0.06%, 5V, 100mA, 5.5V-20V Vin, SOIC-8
pins: 1 DNC, 2 VIN, 3 ~{{SHDN}}, 4 GND, 5 DNC, 6 VOUT, 7 DNC, 8 DNC

## LT1461CxS8-2.5
designator *  value LT1461CxS8-2.5  Reference: U
Voltage Reference, ±0.08%, 2.5V, 100mA, 3V-20V Vin, SOIC-8; ki_keywords: voltage reference precision; ki_fp_filters: SOIC*3.9x4.9mm*P1.27mm*; Footprint: Package_SO:SOIC-8_3.9x4.9mm_P1.27mm; Datasheet: https://www.analog.com/media/en/technical-documentation/data-sheets/LT1461.pdf; Description_: Voltage Reference, ±0.08%, 2.5V, 100mA, 3V-20V Vin, SOIC-8
pins: 1 DNC, 2 VIN, 3 ~{{SHDN}}, 4 GND, 5 DNC, 6 VOUT, 7 DNC, 8 DNC

## LT1461CxS8-3
designator *  value LT1461CxS8-3  Reference: U
Voltage Reference, ±0.08%, 3V, 100mA, 3.5V-20V Vin, SOIC-8; ki_keywords: voltage reference precision; ki_fp_filters: SOIC*3.9x4.9mm*P1.27mm*; Footprint: Package_SO:SOIC-8_3.9x4.9mm_P1.27mm; Datasheet: https://www.analog.com/media/en/technical-documentation/data-sheets/LT1461.pdf; Description_: Voltage Reference, ±0.08%, 3V, 100mA, 3.5V-20V Vin, SOIC-8
pins: 1 DNC, 2 VIN, 3 ~{{SHDN}}, 4 GND, 5 DNC, 6 VOUT, 7 DNC, 8 DNC

## LT1461CxS8-3.3
designator *  value LT1461CxS8-3.3  Reference: U
Voltage Reference, ±0.08%, 3.3V, 100mA, 3.8V-20V Vin, SOIC-8; ki_keywords: voltage reference precision; ki_fp_filters: SOIC*3.9x4.9mm*P1.27mm*; Footprint: Package_SO:SOIC-8_3.9x4.9mm_P1.27mm; Datasheet: https://www.analog.com/media/en/technical-documentation/data-sheets/LT1461.pdf; Description_: Voltage Reference, ±0.08%, 3.3V, 100mA, 3.8V-20V Vin, SOIC-8
pins: 1 DNC, 2 VIN, 3 ~{{SHDN}}, 4 GND, 5 DNC, 6 VOUT, 7 DNC, 8 DNC

## LT1461CxS8-4
designator *  value LT1461CxS8-4  Reference: U
Voltage Reference, ±0.08%, 4.096V, 100mA, 4.596V-20V Vin, SOIC-8; ki_keywords: voltage reference precision; ki_fp_filters: SOIC*3.9x4.9mm*P1.27mm*; Footprint: Package_SO:SOIC-8_3.9x4.9mm_P1.27mm; Datasheet: https://www.analog.com/media/en/technical-documentation/data-sheets/LT1461.pdf; Description_: Voltage Reference, ±0.08%, 4.096V, 100mA, 4.596V-20V Vin, SOIC-8
pins: 1 DNC, 2 VIN, 3 ~{{SHDN}}, 4 GND, 5 DNC, 6 VOUT, 7 DNC, 8 DNC

## LT1461CxS8-5
designator *  value LT1461CxS8-5  Reference: U
Voltage Reference, ±0.08%, 5V, 100mA, 5.5V-20V Vin, SOIC-8; ki_keywords: voltage reference precision; ki_fp_filters: SOIC*3.9x4.9mm*P1.27mm*; Footprint: Package_SO:SOIC-8_3.9x4.9mm_P1.27mm; Datasheet: https://www.analog.com/media/en/technical-documentation/data-sheets/LT1461.pdf; Description_: Voltage Reference, ±0.08%, 5V, 100mA, 5.5V-20V Vin, SOIC-8
pins: 1 DNC, 2 VIN, 3 ~{{SHDN}}, 4 GND, 5 DNC, 6 VOUT, 7 DNC, 8 DNC

## LT1461DxS8-2.5
designator *  value LT1461DxS8-2.5  Reference: U
Voltage Reference, ±0.15%, 2.5V, 100mA, 3V-20V Vin, SOIC-8; ki_keywords: voltage reference precision; ki_fp_filters: SOIC*3.9x4.9mm*P1.27mm*; Footprint: Package_SO:SOIC-8_3.9x4.9mm_P1.27mm; Datasheet: https://www.analog.com/media/en/technical-documentation/data-sheets/LT1461.pdf; Description_: Voltage Reference, ±0.15%, 2.5V, 100mA, 3V-20V Vin, SOIC-8
pins: 1 DNC, 2 VIN, 3 ~{{SHDN}}, 4 GND, 5 DNC, 6 VOUT, 7 DNC, 8 DNC

## LT1461DxS8-3
designator *  value LT1461DxS8-3  Reference: U
Voltage Reference, ±0.15%, 3V, 100mA, 3.5V-20V Vin, SOIC-8; ki_keywords: voltage reference precision; ki_fp_filters: SOIC*3.9x4.9mm*P1.27mm*; Footprint: Package_SO:SOIC-8_3.9x4.9mm_P1.27mm; Datasheet: https://www.analog.com/media/en/technical-documentation/data-sheets/LT1461.pdf; Description_: Voltage Reference, ±0.15%, 3V, 100mA, 3.5V-20V Vin, SOIC-8
pins: 1 DNC, 2 VIN, 3 ~{{SHDN}}, 4 GND, 5 DNC, 6 VOUT, 7 DNC, 8 DNC

## LT1461DxS8-3.3
designator *  value LT1461DxS8-3.3  Reference: U
Voltage Reference, ±0.15%, 3.3V, 100mA, 3.8V-20V Vin, SOIC-8; ki_keywords: voltage reference precision; ki_fp_filters: SOIC*3.9x4.9mm*P1.27mm*; Footprint: Package_SO:SOIC-8_3.9x4.9mm_P1.27mm; Datasheet: https://www.analog.com/media/en/technical-documentation/data-sheets/LT1461.pdf; Description_: Voltage Reference, ±0.15%, 3.3V, 100mA, 3.8V-20V Vin, SOIC-8
pins: 1 DNC, 2 VIN, 3 ~{{SHDN}}, 4 GND, 5 DNC, 6 VOUT, 7 DNC, 8 DNC

## LT1461DxS8-4
designator *  value LT1461DxS8-4  Reference: U
Voltage Reference, ±0.15%, 4.096V, 100mA, 4.596V-20V Vin, SOIC-8; ki_keywords: voltage reference precision; ki_fp_filters: SOIC*3.9x4.9mm*P1.27mm*; Footprint: Package_SO:SOIC-8_3.9x4.9mm_P1.27mm; Datasheet: https://www.analog.com/media/en/technical-documentation/data-sheets/LT1461.pdf; Description_: Voltage Reference, ±0.15%, 4.096V, 100mA, 4.596V-20V Vin, SOIC-8
pins: 1 DNC, 2 VIN, 3 ~{{SHDN}}, 4 GND, 5 DNC, 6 VOUT, 7 DNC, 8 DNC

## LT1461DxS8-5
designator *  value LT1461DxS8-5  Reference: U
Voltage Reference, ±0.15%, 5V, 100mA, 5.5V-20V Vin, SOIC-8; ki_keywords: voltage reference precision; ki_fp_filters: SOIC*3.9x4.9mm*P1.27mm*; Footprint: Package_SO:SOIC-8_3.9x4.9mm_P1.27mm; Datasheet: https://www.analog.com/media/en/technical-documentation/data-sheets/LT1461.pdf; Description_: Voltage Reference, ±0.15%, 5V, 100mA, 5.5V-20V Vin, SOIC-8
pins: 1 DNC, 2 VIN, 3 ~{{SHDN}}, 4 GND, 5 DNC, 6 VOUT, 7 DNC, 8 DNC

## LT1634BCMS8-1.25
designator *  value LT1634BCMS8-1.25  Reference: U
1.25V Micropower Precision Shunt Voltage Reference, MSOP-8; ki_keywords: voltage reference Micropower; ki_fp_filters: MSOP?8*3x3mm*P0.65mm*; Footprint: Package_SO:MSOP-8_3x3mm_P0.65mm; Datasheet: https://www.analog.com/media/en/technical-documentation/data-sheets/1634ff.pdf; Description_: 1.25V Micropower Precision Shunt Voltage Reference, MSOP-8
pins: 4 A, 5 Test, 6 K

## LT1634BCMS8-2.5
designator *  value LT1634BCMS8-2.5  Reference: U
2.5V Micropower Precision Shunt Voltage Reference, MSOP-8; ki_keywords: voltage reference Micropower; ki_fp_filters: MSOP?8*3x3mm*P0.65mm*; Footprint: Package_SO:MSOP-8_3x3mm_P0.65mm; Datasheet: https://www.analog.com/media/en/technical-documentation/data-sheets/1634ff.pdf; Description_: 2.5V Micropower Precision Shunt Voltage Reference, MSOP-8
pins: 4 A, 5 Test, 6 K

## LT1634CCZ-1.25
designator *  value LT1634CCZ-1.25  Reference: U
1.25V Micropower Precision Shunt Voltage Reference, TO-92; ki_keywords: voltage reference Micropower; ki_fp_filters: TO?92*; Footprint: Package_TO_SOT_THT:TO-92_Inline; Datasheet: https://www.analog.com/media/en/technical-documentation/data-sheets/1634ff.pdf; Description_: 1.25V Micropower Precision Shunt Voltage Reference, TO-92
pins: 1 Test, 2 K, 3 A

## LT1634CCZ-2.5
designator *  value LT1634CCZ-2.5  Reference: U
2.5V Micropower Precision Shunt Voltage Reference, TO-92; ki_keywords: voltage reference Micropower; ki_fp_filters: TO?92*; Footprint: Package_TO_SOT_THT:TO-92_Inline; Datasheet: https://www.analog.com/media/en/technical-documentation/data-sheets/1634ff.pdf; Description_: 2.5V Micropower Precision Shunt Voltage Reference, TO-92
pins: 1 Test, 2 K, 3 A

## LT1634CCZ-4.096
designator *  value LT1634CCZ-4.096  Reference: U
4.096V Micropower Precision Shunt Voltage Reference, TO-92; ki_keywords: voltage reference Micropower; ki_fp_filters: TO?92*; Footprint: Package_TO_SOT_THT:TO-92_Inline; Datasheet: https://www.analog.com/media/en/technical-documentation/data-sheets/1634ff.pdf; Description_: 4.096V Micropower Precision Shunt Voltage Reference, TO-92
pins: 1 Test, 2 K, 3 A

## LT1634CCZ-5
designator *  value LT1634CCZ-5  Reference: U
5V Micropower Precision Shunt Voltage Reference, TO-92; ki_keywords: voltage reference Micropower; ki_fp_filters: TO?92*; Footprint: Package_TO_SOT_THT:TO-92_Inline; Datasheet: https://www.analog.com/media/en/technical-documentation/data-sheets/1634ff.pdf; Description_: 5V Micropower Precision Shunt Voltage Reference, TO-92
pins: 1 Test, 2 K, 3 A

## LT1634xxS8-1.25
designator *  value LT1634xxS8-1.25  Reference: U
1.25V Micropower Precision Shunt Voltage Reference, SO-8; ki_keywords: voltage reference Micropower; ki_fp_filters: SO?8*3.9x4.9mm*P1.27mm*; Footprint: Package_SO:SO-8_3.9x4.9mm_P1.27mm; Datasheet: https://www.analog.com/media/en/technical-documentation/data-sheets/1634ff.pdf; Description_: 1.25V Micropower Precision Shunt Voltage Reference, SO-8
pins: 4 A, 5 Test, 6 K

## LT1634xxS8-2.5
designator *  value LT1634xxS8-2.5  Reference: U
2.5V Micropower Precision Shunt Voltage Reference, SO-8; ki_keywords: voltage reference Micropower; ki_fp_filters: SO?8*3.9x4.9mm*P1.27mm*; Footprint: Package_SO:SO-8_3.9x4.9mm_P1.27mm; Datasheet: https://www.analog.com/media/en/technical-documentation/data-sheets/1634ff.pdf; Description_: 2.5V Micropower Precision Shunt Voltage Reference, SO-8
pins: 4 A, 5 Test, 6 K